# Altium footprint library con-panduit.PCBLIB: 22 footprints (part 1 of 2)
Each footprint in its own frame and in the unit in brackets; x right, y up, seen from the top. Pads: shape width x height; smd on the part's side, far side on the other; paste and mask are expansions set on the pad; w line width, h text height; cw(c..) or ccw(c..) is an arc to the next point about the centre after c.
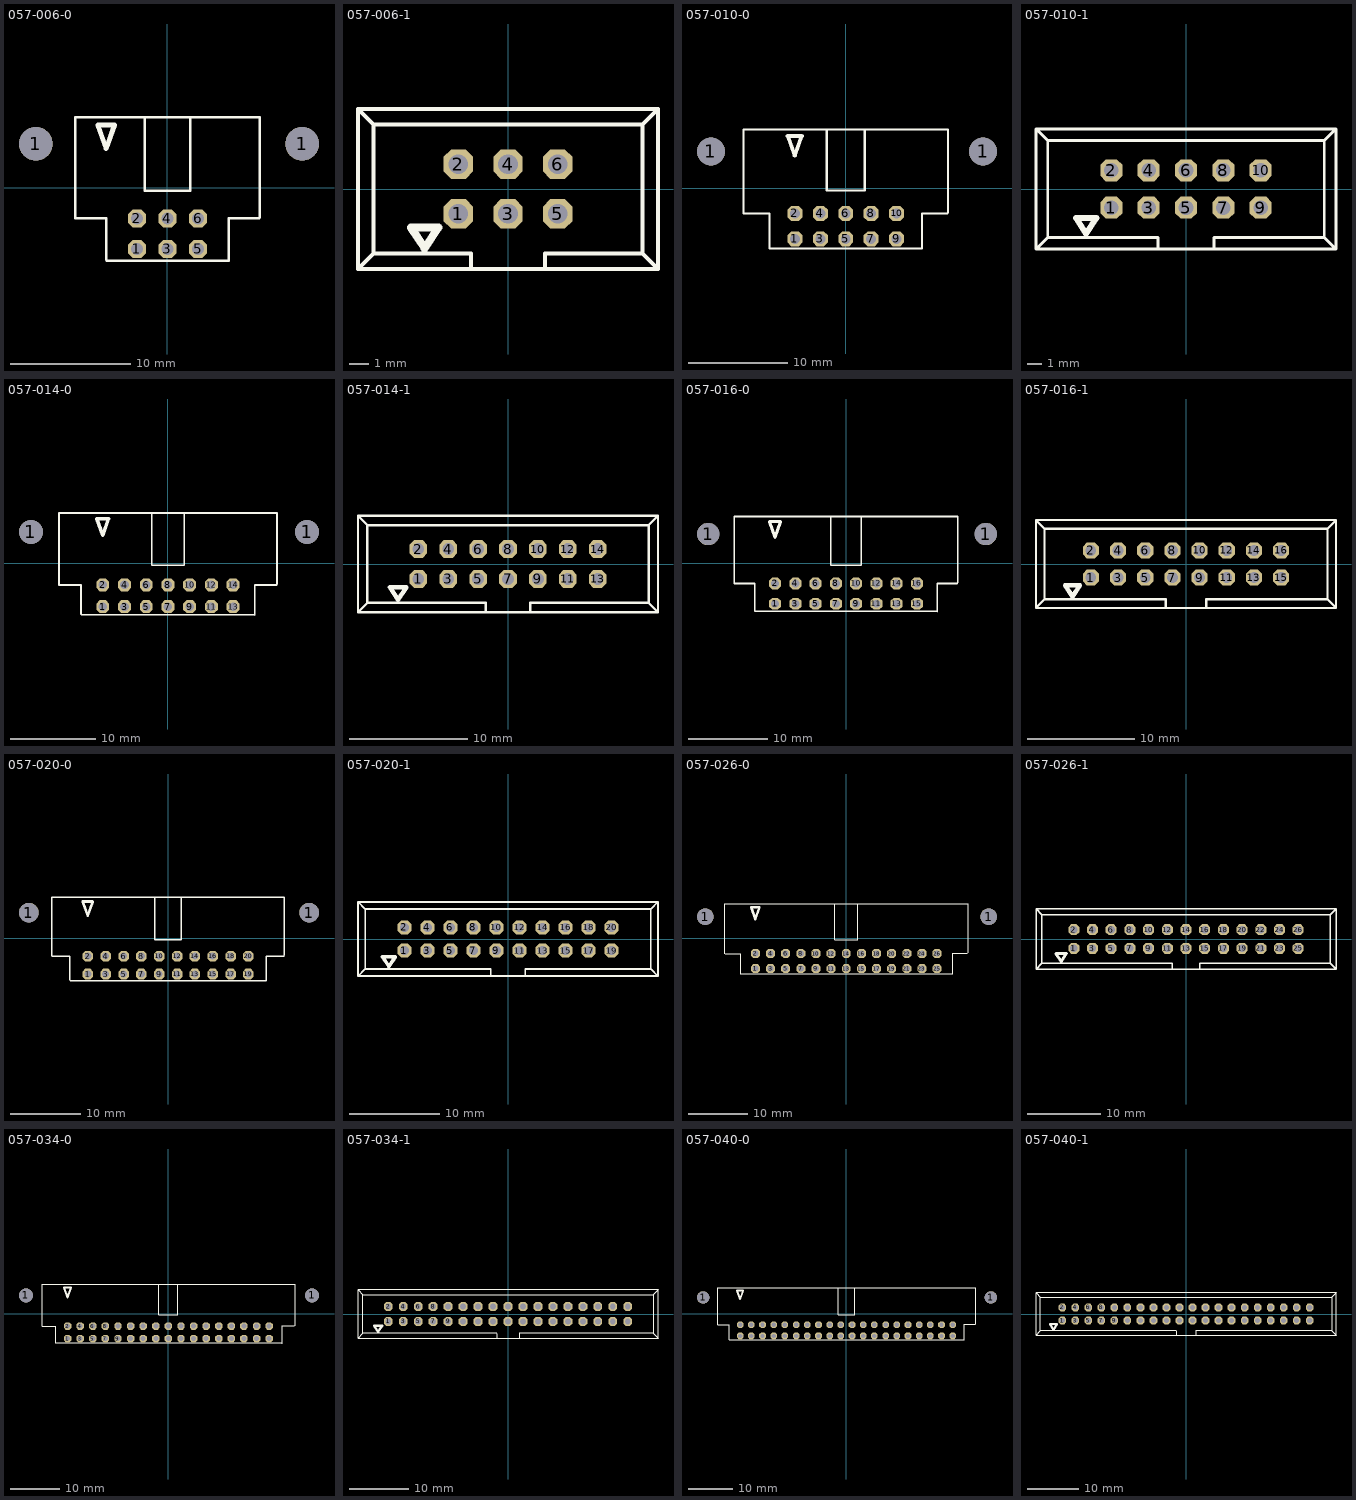
[diagram p0: the footprints below, top view; thin cyan lines are the x and y axes]

## 057-006-0 [mm]
pads (8):
  round 2.8 hole 2.8: 1(-10.94,3.66) 1(11.19,3.66)
  oct 1.5x1.5 hole 1: 1(-2.54,-5.08) 2(-2.54,-2.54) 3(0,-5.08) 4(0,-2.54) 5(2.54,-5.08) 6(2.54,-2.54)
Top Overlay:
  lines w0.203: -7.67,-2.54 -7.67,5.86 7.67,5.86 7.67,-2.44 ; -7.62,-2.54 -5.08,-2.54 -5.08,-5.98 ; -5.07,-6.04 5.07,-6.04 ; -1.9,5.86 -1.9,-0.23 1.9,-0.23 1.9,5.86 ; 5.08,-6.05 5.08,-2.54 7.62,-2.54
  lines w0.406: -5.8,5.22 -5.1,3.25 -4.4,5.22 -5.8,5.22

## 057-006-1 [mm]
pads (6):
  oct 1.5x1.5 hole 1: 1(-2.54,-1.27) 2(-2.54,1.27) 3(0,-1.27) 4(0,1.27) 5(2.54,-1.27) 6(2.54,1.27)
Top Overlay:
  lines w0.203: -1.9,-4.03 -1.9,-3.32 ; -1.9,-3.3 -6.87,-3.3 ; 1.9,-4.03 1.9,-3.32 ; 1.9,-3.3 6.87,-3.3 ; -7.67,-4.1 -7.67,4.1 ; -7.67,-4.1 7.67,-4.1 ; -7.67,-4.1 -6.87,-3.3 ; -7.67,4.1 7.67,4.1 ; -7.67,4.1 -6.87,3.3 ; -6.87,-3.3 -6.87,3.3 ; -6.87,3.3 6.87,3.3 ; 6.87,-3.3 6.87,3.3 ; 6.87,-3.3 7.67,-4.1 ; 6.87,3.3 7.67,4.1 ; 7.67,-4.1 7.67,4.1
  lines w0.406: -4.96,-1.97 -4.26,-3.04 -3.56,-1.97 -4.96,-1.97

## 057-010-0 [mm]
pads (12):
  round 2.8 hole 2.8: 1(-13.48,3.66) 1(13.73,3.66)
  oct 1.5x1.5 hole 1: 1(-5.08,-5.08) 2(-5.08,-2.54) 3(-2.54,-5.08) 4(-2.54,-2.54) 5(0,-5.08) 6(0,-2.54) 7(2.54,-5.08) 8(2.54,-2.54) 9(5.08,-5.08) 10(5.08,-2.54)
Top Overlay:
  lines w0.203: -10.21,-2.54 -10.21,5.86 10.21,5.86 10.21,-2.44 ; -10.16,-2.54 -7.62,-2.54 -7.62,-5.98 ; -7.61,-6.04 7.61,-6.04 ; -1.9,5.86 -1.9,-0.23 1.9,-0.23 1.9,5.86 ; 7.62,-6.05 7.62,-2.54 10.16,-2.54
  lines w0.406: -5.8,5.22 -5.1,3.25 -4.4,5.22 -5.8,5.22

## 057-010-1 [mm]
pads (10):
  oct 1.5x1.5 hole 1: 1(-5.08,-1.27) 2(-5.08,1.27) 3(-2.54,-1.27) 4(-2.54,1.27) 5(0,-1.27) 6(0,1.27) 7(2.54,-1.27) 8(2.54,1.27) 9(5.08,-1.27) 10(5.08,1.27)
Top Overlay:
  lines w0.203: -1.9,-4.03 -1.9,-3.32 ; -1.9,-3.3 -9.41,-3.3 ; 1.9,-4.03 1.9,-3.32 ; 1.9,-3.3 9.41,-3.3 ; -10.21,-4.1 -10.21,4.1 ; -10.21,-4.1 10.21,-4.1 ; -10.21,-4.1 -9.41,-3.3 ; -10.21,4.1 10.21,4.1 ; -10.21,4.1 -9.41,3.3 ; -9.41,-3.3 -9.41,3.3 ; -9.41,3.3 9.41,3.3 ; 9.41,-3.3 9.41,3.3 ; 9.41,-3.3 10.21,-4.1 ; 9.41,3.3 10.21,4.1 ; 10.21,-4.1 10.21,4.1
  lines w0.406: -7.5,-1.97 -6.8,-3.04 -6.1,-1.97 -7.5,-1.97

## 057-014-0 [mm]
pads (16):
  round 2.8 hole 2.8: 1(-16.02,3.66) 1(16.27,3.66)
  oct 1.5x1.5 hole 1: 1(-7.62,-5.08) 2(-7.62,-2.54) 3(-5.08,-5.08) 4(-5.08,-2.54) 5(-2.54,-5.08) 6(-2.54,-2.54) 7(0,-5.08) 8(0,-2.54) 9(2.54,-5.08) 10(2.54,-2.54) 11(5.08,-5.08) 12(5.08,-2.54) 13(7.62,-5.08) 14(7.62,-2.54)
Top Overlay:
  lines w0.203: -12.75,-2.54 -12.75,5.86 12.75,5.86 12.75,-2.44 ; -12.7,-2.54 -10.16,-2.54 -10.16,-5.98 ; -10.15,-6.04 10.15,-6.04 ; -1.9,5.86 -1.9,-0.23 1.9,-0.23 1.9,5.86 ; 10.16,-6.05 10.16,-2.54 12.7,-2.54
  lines w0.406: -8.34,5.22 -7.64,3.25 -6.94,5.22 -8.34,5.22

## 057-014-1 [mm]
pads (14):
  oct 1.5x1.5 hole 1: 1(-7.62,-1.27) 2(-7.62,1.27) 3(-5.08,-1.27) 4(-5.08,1.27) 5(-2.54,-1.27) 6(-2.54,1.27) 7(0,-1.27) 8(0,1.27) 9(2.54,-1.27) 10(2.54,1.27) 11(5.08,-1.27) 12(5.08,1.27) 13(7.62,-1.27) 14(7.62,1.27)
Top Overlay:
  lines w0.203: -1.9,-4.03 -1.9,-3.32 ; -1.9,-3.3 -11.95,-3.3 ; 1.9,-4.03 1.9,-3.32 ; 1.9,-3.3 11.95,-3.3 ; -12.75,-4.1 -12.75,4.1 ; -12.75,-4.1 12.75,-4.1 ; -12.75,-4.1 -11.95,-3.3 ; -12.75,4.1 12.75,4.1 ; -12.75,4.1 -11.95,3.3 ; -11.95,-3.3 -11.95,3.3 ; -11.95,3.3 11.95,3.3 ; 11.95,-3.3 11.95,3.3 ; 11.95,-3.3 12.75,-4.1 ; 11.95,3.3 12.75,4.1 ; 12.75,-4.1 12.75,4.1
  lines w0.406: -10.04,-1.97 -9.34,-3.04 -8.64,-1.97 -10.04,-1.97

## 057-016-0 [mm]
pads (18):
  round 2.8 hole 2.8: 1(-17.29,3.66) 1(17.54,3.66)
  oct 1.5x1.5 hole 1: 1(-8.89,-5.08) 2(-8.89,-2.54) 3(-6.35,-5.08) 4(-6.35,-2.54) 5(-3.81,-5.08) 6(-3.81,-2.54) 7(-1.27,-5.08) 8(-1.27,-2.54) 9(1.27,-5.08) 10(1.27,-2.54) 11(3.81,-5.08) 12(3.81,-2.54) 13(6.35,-5.08) 14(6.35,-2.54) 15(8.89,-5.08) 16(8.89,-2.54)
Top Overlay:
  lines w0.203: -14.02,-2.54 -14.02,5.86 14.02,5.86 14.02,-2.44 ; -13.97,-2.54 -11.43,-2.54 -11.43,-5.98 ; -11.42,-6.04 11.42,-6.04 ; -1.9,5.86 -1.9,-0.23 1.9,-0.23 1.9,5.86 ; 11.43,-6.05 11.43,-2.54 13.97,-2.54
  lines w0.406: -9.61,5.22 -8.91,3.25 -8.21,5.22 -9.61,5.22

## 057-016-1 [mm]
pads (16):
  oct 1.5x1.5 hole 1: 1(-8.89,-1.27) 2(-8.89,1.27) 3(-6.35,-1.27) 4(-6.35,1.27) 5(-3.81,-1.27) 6(-3.81,1.27) 7(-1.27,-1.27) 8(-1.27,1.27) 9(1.27,-1.27) 10(1.27,1.27) 11(3.81,-1.27) 12(3.81,1.27) 13(6.35,-1.27) 14(6.35,1.27) 15(8.89,-1.27) 16(8.89,1.27)
Top Overlay:
  lines w0.203: -1.9,-4.03 -1.9,-3.32 ; -1.9,-3.3 -13.22,-3.3 ; 1.9,-4.03 1.9,-3.32 ; 1.9,-3.3 13.22,-3.3 ; -14.02,-4.1 -14.02,4.1 ; -14.02,-4.1 14.02,-4.1 ; -14.02,-4.1 -13.22,-3.3 ; -14.02,4.1 14.02,4.1 ; -14.02,4.1 -13.22,3.3 ; -13.22,-3.3 -13.22,3.3 ; -13.22,3.3 13.22,3.3 ; 13.22,-3.3 13.22,3.3 ; 13.22,-3.3 14.02,-4.1 ; 13.22,3.3 14.02,4.1 ; 14.02,-4.1 14.02,4.1
  lines w0.406: -11.31,-1.97 -10.61,-3.04 -9.91,-1.97 -11.31,-1.97

## 057-020-0 [mm]
pads (22):
  round 2.8 hole 2.8: 1(-19.83,3.66) 1(20.08,3.66)
  oct 1.5x1.5 hole 1: 1(-11.43,-5.08) 2(-11.43,-2.54) 3(-8.89,-5.08) 4(-8.89,-2.54) 5(-6.35,-5.08) 6(-6.35,-2.54) 7(-3.81,-5.08) 8(-3.81,-2.54) 9(-1.27,-5.08) 10(-1.27,-2.54) 11(1.27,-5.08) 12(1.27,-2.54) 13(3.81,-5.08) 14(3.81,-2.54) 15(6.35,-5.08) 16(6.35,-2.54) 17(8.89,-5.08) 18(8.89,-2.54) 19(11.43,-5.08) 20(11.43,-2.54)
Top Overlay:
  lines w0.203: -16.56,-2.54 -16.56,5.86 16.56,5.86 16.56,-2.44 ; -16.51,-2.54 -13.97,-2.54 -13.97,-5.98 ; -13.96,-6.04 13.96,-6.04 ; -1.9,5.86 -1.9,-0.23 1.9,-0.23 1.9,5.86 ; 13.97,-6.05 13.97,-2.54 16.51,-2.54
  lines w0.406: -12.15,5.22 -11.45,3.25 -10.75,5.22 -12.15,5.22

## 057-020-1 [mm]
pads (20):
  oct 1.5x1.5 hole 1: 1(-11.43,-1.27) 2(-11.43,1.27) 3(-8.89,-1.27) 4(-8.89,1.27) 5(-6.35,-1.27) 6(-6.35,1.27) 7(-3.81,-1.27) 8(-3.81,1.27) 9(-1.27,-1.27) 10(-1.27,1.27) 11(1.27,-1.27) 12(1.27,1.27) 13(3.81,-1.27) 14(3.81,1.27) 15(6.35,-1.27) 16(6.35,1.27) 17(8.89,-1.27) 18(8.89,1.27) 19(11.43,-1.27) 20(11.43,1.27)
Top Overlay:
  lines w0.203: -1.9,-4.03 -1.9,-3.32 ; -1.9,-3.3 -15.76,-3.3 ; 1.9,-4.03 1.9,-3.32 ; 1.9,-3.3 15.76,-3.3 ; -16.56,-4.1 -16.56,4.1 ; -16.56,-4.1 16.56,-4.1 ; -16.56,-4.1 -15.76,-3.3 ; -16.56,4.1 16.56,4.1 ; -16.56,4.1 -15.76,3.3 ; -15.76,-3.3 -15.76,3.3 ; -15.76,3.3 15.76,3.3 ; 15.76,-3.3 15.76,3.3 ; 15.76,-3.3 16.56,-4.1 ; 15.76,3.3 16.56,4.1 ; 16.56,-4.1 16.56,4.1
  lines w0.406: -13.85,-1.97 -13.15,-3.04 -12.45,-1.97 -13.85,-1.97

## 057-026-0 [mm]
pads (28):
  round 2.8 hole 2.8: 1(-23.64,3.66) 1(23.89,3.66)
  oct 1.5x1.5 hole 1: 1(-15.24,-5.08) 2(-15.24,-2.54) 3(-12.7,-5.08) 4(-12.7,-2.54) 5(-10.16,-5.08) 6(-10.16,-2.54) 7(-7.62,-5.08) 8(-7.62,-2.54) 9(-5.08,-5.08) 10(-5.08,-2.54) 11(-2.54,-5.08) 12(-2.54,-2.54) 13(0,-5.08) 14(0,-2.54) 15(2.54,-5.08) 16(2.54,-2.54) 17(5.08,-5.08) 18(5.08,-2.54) 19(7.62,-5.08) 20(7.62,-2.54) 21(10.16,-5.08) 22(10.16,-2.54) 23(12.7,-5.08) 24(12.7,-2.54) 25(15.24,-5.08) 26(15.24,-2.54)
Top Overlay:
  lines w0.203: -20.37,-2.54 -20.37,5.86 20.37,5.86 20.37,-2.44 ; -20.32,-2.54 -17.78,-2.54 -17.78,-5.98 ; -17.77,-6.04 17.77,-6.04 ; -1.9,5.86 -1.9,-0.23 1.9,-0.23 1.9,5.86 ; 17.78,-6.05 17.78,-2.54 20.32,-2.54
  lines w0.406: -15.96,5.22 -15.26,3.25 -14.56,5.22 -15.96,5.22

## 057-026-1 [mm]
pads (26):
  oct 1.5x1.5 hole 1: 1(-15.24,-1.27) 2(-15.24,1.27) 3(-12.7,-1.27) 4(-12.7,1.27) 5(-10.16,-1.27) 6(-10.16,1.27) 7(-7.62,-1.27) 8(-7.62,1.27) 9(-5.08,-1.27) 10(-5.08,1.27) 11(-2.54,-1.27) 12(-2.54,1.27) 13(0,-1.27) 14(0,1.27) 15(2.54,-1.27) 16(2.54,1.27) 17(5.08,-1.27) 18(5.08,1.27) 19(7.62,-1.27) 20(7.62,1.27) 21(10.16,-1.27) 22(10.16,1.27) 23(12.7,-1.27) 24(12.7,1.27) 25(15.24,-1.27) 26(15.24,1.27)
Top Overlay:
  lines w0.203: -1.9,-4.03 -1.9,-3.32 ; -1.9,-3.3 -19.57,-3.3 ; 1.9,-4.03 1.9,-3.32 ; 1.9,-3.3 19.57,-3.3 ; -20.37,-4.1 -20.37,4.1 ; -20.37,-4.1 20.37,-4.1 ; -20.37,-4.1 -19.57,-3.3 ; -20.37,4.1 20.37,4.1 ; -20.37,4.1 -19.57,3.3 ; -19.57,-3.3 -19.57,3.3 ; -19.57,3.3 19.57,3.3 ; 19.57,-3.3 19.57,3.3 ; 19.57,-3.3 20.37,-4.1 ; 19.57,3.3 20.37,4.1 ; 20.37,-4.1 20.37,4.1
  lines w0.406: -17.66,-1.97 -16.96,-3.04 -16.26,-1.97 -17.66,-1.97

## 057-034-0 [mm]
pads (36):
  round 2.8 hole 2.8: 1(-28.72,3.66) 1(28.97,3.66)
  oct 1.5x1.5 hole 1: 1(-20.32,-5.08) 2(-20.32,-2.54) 3(-17.78,-5.08) 4(-17.78,-2.54) 5(-15.24,-5.08) 6(-15.24,-2.54) 7(-12.7,-5.08) 8(-12.7,-2.54) 9(-10.16,-5.08) 10(-10.16,-2.54) 11(-7.62,-5.08) 12(-7.62,-2.54) 13(-5.08,-5.08) 14(-5.08,-2.54) 15(-2.54,-5.08) 16(-2.54,-2.54) 17(0,-5.08) 18(0,-2.54) 19(2.54,-5.08) 20(2.54,-2.54) 21(5.08,-5.08) 22(5.08,-2.54) 23(7.62,-5.08) 24(7.62,-2.54) 25(10.16,-5.08) 26(10.16,-2.54) 27(12.7,-5.08) 28(12.7,-2.54) 29(15.24,-5.08) 30(15.24,-2.54) 31(17.78,-5.08) 32(17.78,-2.54) 33(20.32,-5.08) 34(20.32,-2.54)
Top Overlay:
  lines w0.203: -25.45,-2.54 -25.45,5.86 25.45,5.86 25.45,-2.44 ; -25.4,-2.54 -22.86,-2.54 -22.86,-5.98 ; -22.85,-6.04 22.85,-6.04 ; -1.9,5.86 -1.9,-0.23 1.9,-0.23 1.9,5.86 ; 22.86,-6.05 22.86,-2.54 25.4,-2.54
  lines w0.406: -21.04,5.22 -20.34,3.25 -19.64,5.22 -21.04,5.22

## 057-034-1 [mm]
pads (34):
  oct 1.5x1.5 hole 1: 1(-20.32,-1.27) 2(-20.32,1.27) 3(-17.78,-1.27) 4(-17.78,1.27) 5(-15.24,-1.27) 6(-15.24,1.27) 7(-12.7,-1.27) 8(-12.7,1.27) 9(-10.16,-1.27) 10(-10.16,1.27) 11(-7.62,-1.27) 12(-7.62,1.27) 13(-5.08,-1.27) 14(-5.08,1.27) 15(-2.54,-1.27) 16(-2.54,1.27) 17(0,-1.27) 18(0,1.27) 19(2.54,-1.27) 20(2.54,1.27) 21(5.08,-1.27) 22(5.08,1.27) 23(7.62,-1.27) 24(7.62,1.27) 25(10.16,-1.27) 26(10.16,1.27) 27(12.7,-1.27) 28(12.7,1.27) 29(15.24,-1.27) 30(15.24,1.27) 31(17.78,-1.27) 32(17.78,1.27) 33(20.32,-1.27) 34(20.32,1.27)
Top Overlay:
  lines w0.203: -1.9,-4.03 -1.9,-3.32 ; -1.9,-3.3 -24.65,-3.3 ; 1.9,-4.03 1.9,-3.32 ; 1.9,-3.3 24.65,-3.3 ; -25.45,-4.1 -25.45,4.1 ; -25.45,-4.1 25.45,-4.1 ; -25.45,-4.1 -24.65,-3.3 ; -25.45,4.1 25.45,4.1 ; -25.45,4.1 -24.65,3.3 ; -24.65,-3.3 -24.65,3.3 ; -24.65,3.3 24.65,3.3 ; 24.65,-3.3 24.65,3.3 ; 24.65,-3.3 25.45,-4.1 ; 24.65,3.3 25.45,4.1 ; 25.45,-4.1 25.45,4.1
  lines w0.406: -22.74,-1.97 -22.04,-3.04 -21.34,-1.97 -22.74,-1.97

## 057-040-0 [mm]
pads (42):
  round 2.8 hole 2.8: 1(-32.53,3.66) 1(32.78,3.66)
  oct 1.5x1.5 hole 1: 1(-24.13,-5.08) 2(-24.13,-2.54) 3(-21.59,-5.08) 4(-21.59,-2.54) 5(-19.05,-5.08) 6(-19.05,-2.54) 7(-16.51,-5.08) 8(-16.51,-2.54) 9(-13.97,-5.08) 10(-13.97,-2.54) 11(-11.43,-5.08) 12(-11.43,-2.54) 13(-8.89,-5.08) 14(-8.89,-2.54) 15(-6.35,-5.08) 16(-6.35,-2.54) 17(-3.81,-5.08) 18(-3.81,-2.54) 19(-1.27,-5.08) 20(-1.27,-2.54) 21(1.27,-5.08) 22(1.27,-2.54) 23(3.81,-5.08) 24(3.81,-2.54) 25(6.35,-5.08) 26(6.35,-2.54) 27(8.89,-5.08) 28(8.89,-2.54) 29(11.43,-5.08) 30(11.43,-2.54) 31(13.97,-5.08) 32(13.97,-2.54) 33(16.51,-5.08) 34(16.51,-2.54) 35(19.05,-5.08) 36(19.05,-2.54) 37(21.59,-5.08) 38(21.59,-2.54) 39(24.13,-5.08) 40(24.13,-2.54)
Top Overlay:
  lines w0.203: -29.26,-2.54 -29.26,5.86 29.26,5.86 29.26,-2.44 ; -29.21,-2.54 -26.67,-2.54 -26.67,-5.98 ; -26.66,-6.04 26.66,-6.04 ; -1.9,5.86 -1.9,-0.23 1.9,-0.23 1.9,5.86 ; 26.67,-6.05 26.67,-2.54 29.21,-2.54
  lines w0.406: -24.85,5.22 -24.15,3.25 -23.45,5.22 -24.85,5.22

## 057-040-1 [mm]
pads (40):
  oct 1.5x1.5 hole 1: 1(-24.13,-1.27) 2(-24.13,1.27) 3(-21.59,-1.27) 4(-21.59,1.27) 5(-19.05,-1.27) 6(-19.05,1.27) 7(-16.51,-1.27) 8(-16.51,1.27) 9(-13.97,-1.27) 10(-13.97,1.27) 11(-11.43,-1.27) 12(-11.43,1.27) 13(-8.89,-1.27) 14(-8.89,1.27) 15(-6.35,-1.27) 16(-6.35,1.27) 17(-3.81,-1.27) 18(-3.81,1.27) 19(-1.27,-1.27) 20(-1.27,1.27) 21(1.27,-1.27) 22(1.27,1.27) 23(3.81,-1.27) 24(3.81,1.27) 25(6.35,-1.27) 26(6.35,1.27) 27(8.89,-1.27) 28(8.89,1.27) 29(11.43,-1.27) 30(11.43,1.27) 31(13.97,-1.27) 32(13.97,1.27) 33(16.51,-1.27) 34(16.51,1.27) 35(19.05,-1.27) 36(19.05,1.27) 37(21.59,-1.27) 38(21.59,1.27) 39(24.13,-1.27) 40(24.13,1.27)
Top Overlay:
  lines w0.203: -1.9,-4.03 -1.9,-3.32 ; -1.9,-3.3 -28.46,-3.3 ; 1.9,-4.03 1.9,-3.32 ; 1.9,-3.3 28.46,-3.3 ; -29.26,-4.1 -29.26,4.1 ; -29.26,-4.1 29.26,-4.1 ; -29.26,-4.1 -28.46,-3.3 ; -29.26,4.1 29.26,4.1 ; -29.26,4.1 -28.46,3.3 ; -28.46,-3.3 -28.46,3.3 ; -28.46,3.3 28.46,3.3 ; 28.46,-3.3 28.46,3.3 ; 28.46,-3.3 29.26,-4.1 ; 28.46,3.3 29.26,4.1 ; 29.26,-4.1 29.26,4.1
  lines w0.406: -26.55,-1.97 -25.85,-3.04 -25.15,-1.97 -26.55,-1.97